# Altium footprint library БТИ6.PcbLib: 1 footprints
Each footprint in its own frame and in the unit in brackets; x right, y up, seen from the top. Pads: shape width x height; smd on the part's side, far side on the other; paste and mask are expansions set on the pad; w line width, h text height; cw(c..) or ccw(c..) is an arc to the next point about the centre after c.
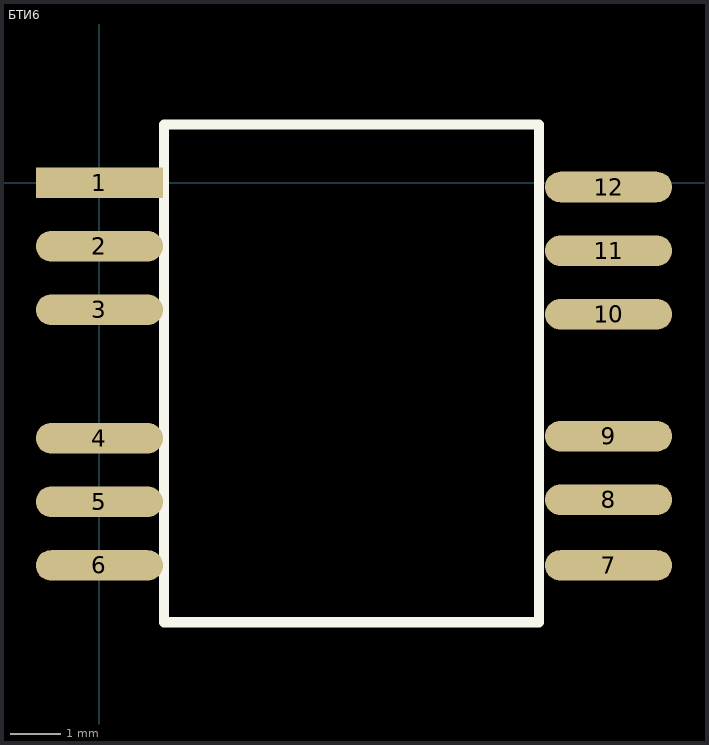
[diagram p0: the footprint, top view; thin cyan lines are the x and y axes]

## БТИ6 [mm]
pads (12):
  rect 2.5x0.6 smd: 1(0,0)
  oval 2.5x0.6 smd: 2(0,-1.25) 3(0,-2.5) 4(0,-5.02) 5(0,-6.27) 6(0,-7.52) 7(10,-7.52) 8(10,-6.23) 9(10,-4.98) 10(10,-2.587) 11(10,-1.337) 12(10,-0.087)
Top Overlay:
  lines w0.2: 1.27,-8.636 8.636,-8.636 8.636,1.143 1.27,1.143 1.27,-8.636
3D body: height 2.5, standoff 0, extent 1.27,-8.636 8.636,1.143